# EAGLE library part #ECC81_83 (library E88CC)
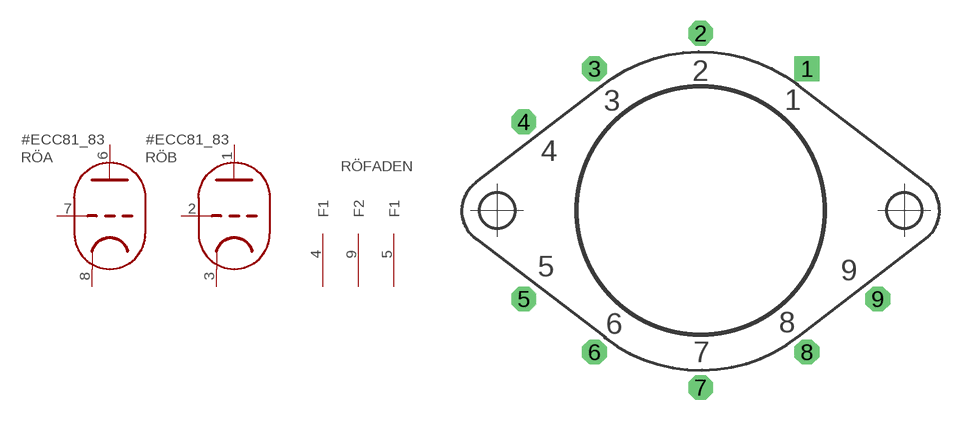
[diagram p12: symbol with the pads of NOVAL_G; footprint NOVAL_G]

Designator prefix RÖ; gates A=TRIODE B=TRIODE FADEN=FADEN_M

## #ECC81_83  [NOVAL_G]
1  B:A  out
2  B:G  in
3  B:K
4  FADEN:F1  pwr
5  FADEN:F1  pwr
6  A:A  out
7  A:G  in
8  A:K
9  FADEN:F2  pwr

## Footprint NOVAL_G (pad centres in mm)
drill 1 pad 1.778 square: 1 7.62,10.16
drill 1 pad 1.778 octagon: 2 0,12.7; 3 -7.62,10.16; 4 -12.7,6.35; 5 -12.7,-6.35; 6 -7.62,-10.16; 7 0,-12.7; 8 7.62,-10.16; 9 12.7,-6.35